# EAGLE library part CP2102-BOARD (library E75-2G4M20S)
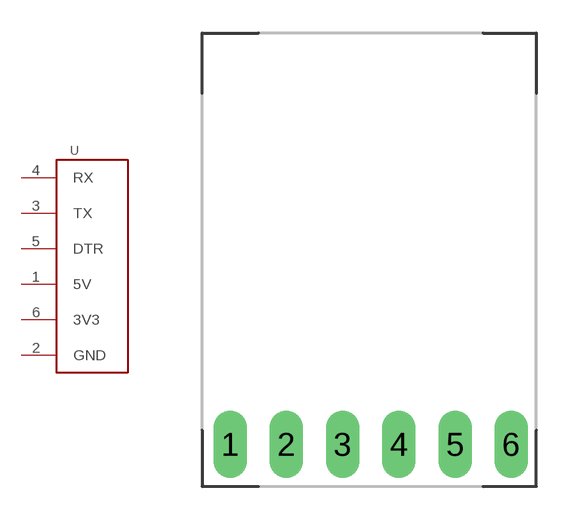
[diagram p2: symbol with the pads of CP2102-BOARD; footprint CP2102-BOARD]

Designator prefix U

## CP2102-BOARD  [CP2102-BOARD]
1  5V
2  GND
3  TX
4  RX
5  DTR
6  3V3

## Footprint CP2102-BOARD (pad centres in mm)
drill 1.016 long: 1 -6.28,-8.345; 2 -3.74,-8.345; 3 -1.2,-8.345; 4 1.34,-8.345; 5 3.88,-8.345; 6 6.42,-8.345